# Altium footprint library SOIC9P127_490X600X170L83X41T287X202N.PcbLib: 1 footprints
Each footprint in its own frame and in the unit in brackets; x right, y up, seen from the top. Pads: shape width x height; smd on the part's side, far side on the other; paste and mask are expansions set on the pad; w line width, h text height; cw(c..) or ccw(c..) is an arc to the next point about the centre after c.
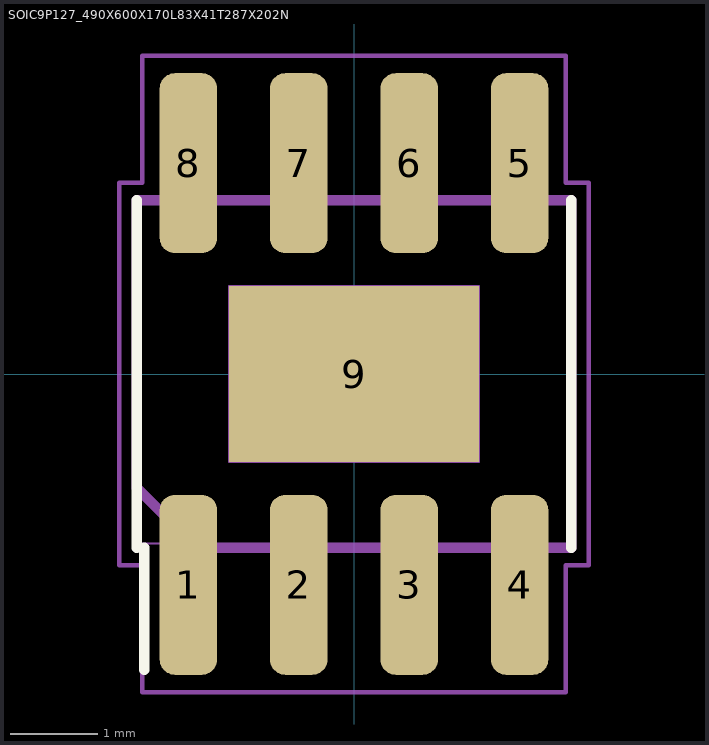
[diagram p0: the footprint, top view; thin cyan lines are the x and y axes]

## SOIC9P127_490X600X170L83X41T287X202N [mm] "Small Outline IC (SOIC with Tab), 1.27 mm pitch; 8 pin, 4.90 mm L X 3.90 mm W X 1.70 mm H body"
height 1.7
pads (9):
  rrect52% 0.66x2.07 smd: 1(-1.905,-2.425) 2(-0.635,-2.425) 3(0.635,-2.425) 4(1.905,-2.425) 5(1.905,2.425) 6(0.635,2.425) 7(-0.635,2.425) 8(-1.905,2.425)
  rect 2.875x2.025 smd paste-2.875: 9(0,0)
Top Overlay:
  lines w0.12: -2.5,-2 -2.5,2 ; -2.415,-3.4 -2.415,-2 ; 2.5,-2 2.5,2
Top Paste:
  region: 1.265,-0.845 0.175,-0.845 0.175,-0.175 1.265,-0.175
  region: 1.265,0.175 0.175,0.175 0.175,0.845 1.265,0.845
  region: -0.175,-0.845 -1.265,-0.845 -1.265,-0.175 -0.175,-0.175
  region: -0.175,0.175 -1.265,0.175 -1.265,0.845 -0.175,0.845
Mechanical 3:
  lines w0.12: -2.5,-1.31 -1.81,-2 2.5,-2 2.5,2 -2.5,2 -2.5,-1.31
Mechanical 5:
  lines w0.025: -2.45,-1.95 -2.45,1.95 2.45,1.95 2.45,-1.95 -2.45,-1.95 ; -2.11,-3 -1.7,-3 -1.7,-2.165 -2.11,-2.165 -2.11,-3 ; -2.11,2.165 -1.7,2.165 -1.7,3 -2.11,3 -2.11,2.165 ; -1.438,-1.012 1.438,-1.012 1.438,1.012 -1.438,1.012 -1.438,-1.012 ; -0.84,-3 -0.43,-3 -0.43,-2.165 -0.84,-2.165 -0.84,-3 ; -0.84,2.165 -0.43,2.165 -0.43,3 -0.84,3 -0.84,2.165 ; 0.43,-3 0.84,-3 0.84,-2.165 0.43,-2.165 0.43,-3 ; 0.43,2.165 0.84,2.165 0.84,3 0.43,3 0.43,2.165 ; 1.7,-3 2.11,-3 2.11,-2.165 1.7,-2.165 1.7,-3 ; 1.7,2.165 2.11,2.165 2.11,3 1.7,3 1.7,2.165
Mechanical 7:
  circle w0.05: c0,0 r0.25
  lines w0.05: -0.35,0 0.35,0 ; 0,-0.35 0,0.35 ; -2.7,-2.2 -2.7,2.2 -2.435,2.2 -2.435,3.66 2.435,3.66 2.435,2.2 2.7,2.2 2.7,-2.2 2.435,-2.2 2.435,-3.66 -2.435,-3.66 -2.435,-2.2 -2.7,-2.2
Mechanical 9:
  text "'.Designator'" at -5.004,-0.432 h1
3D body "SOIC9P127_490X600X170L83X41T287X202.STEP": height 1.7, standoff 0, extent -2.45,-3 2.45,3
3D body: height 0.03, standoff 0, extent -2.718,-3.658 2.692,3.658
3D body: height 1.04, standoff 0, extent -2.7,-3.66 2.7,3.66